# Altium footprint library LDO-DC_DC.PcbLib: 36 footprints (part 2 of 3)
Each footprint in its own frame and in the unit in brackets; x right, y up, seen from the top. Pads: shape width x height; smd on the part's side, far side on the other; paste and mask are expansions set on the pad; w line width, h text height; cw(c..) or ccw(c..) is an arc to the next point about the centre after c.
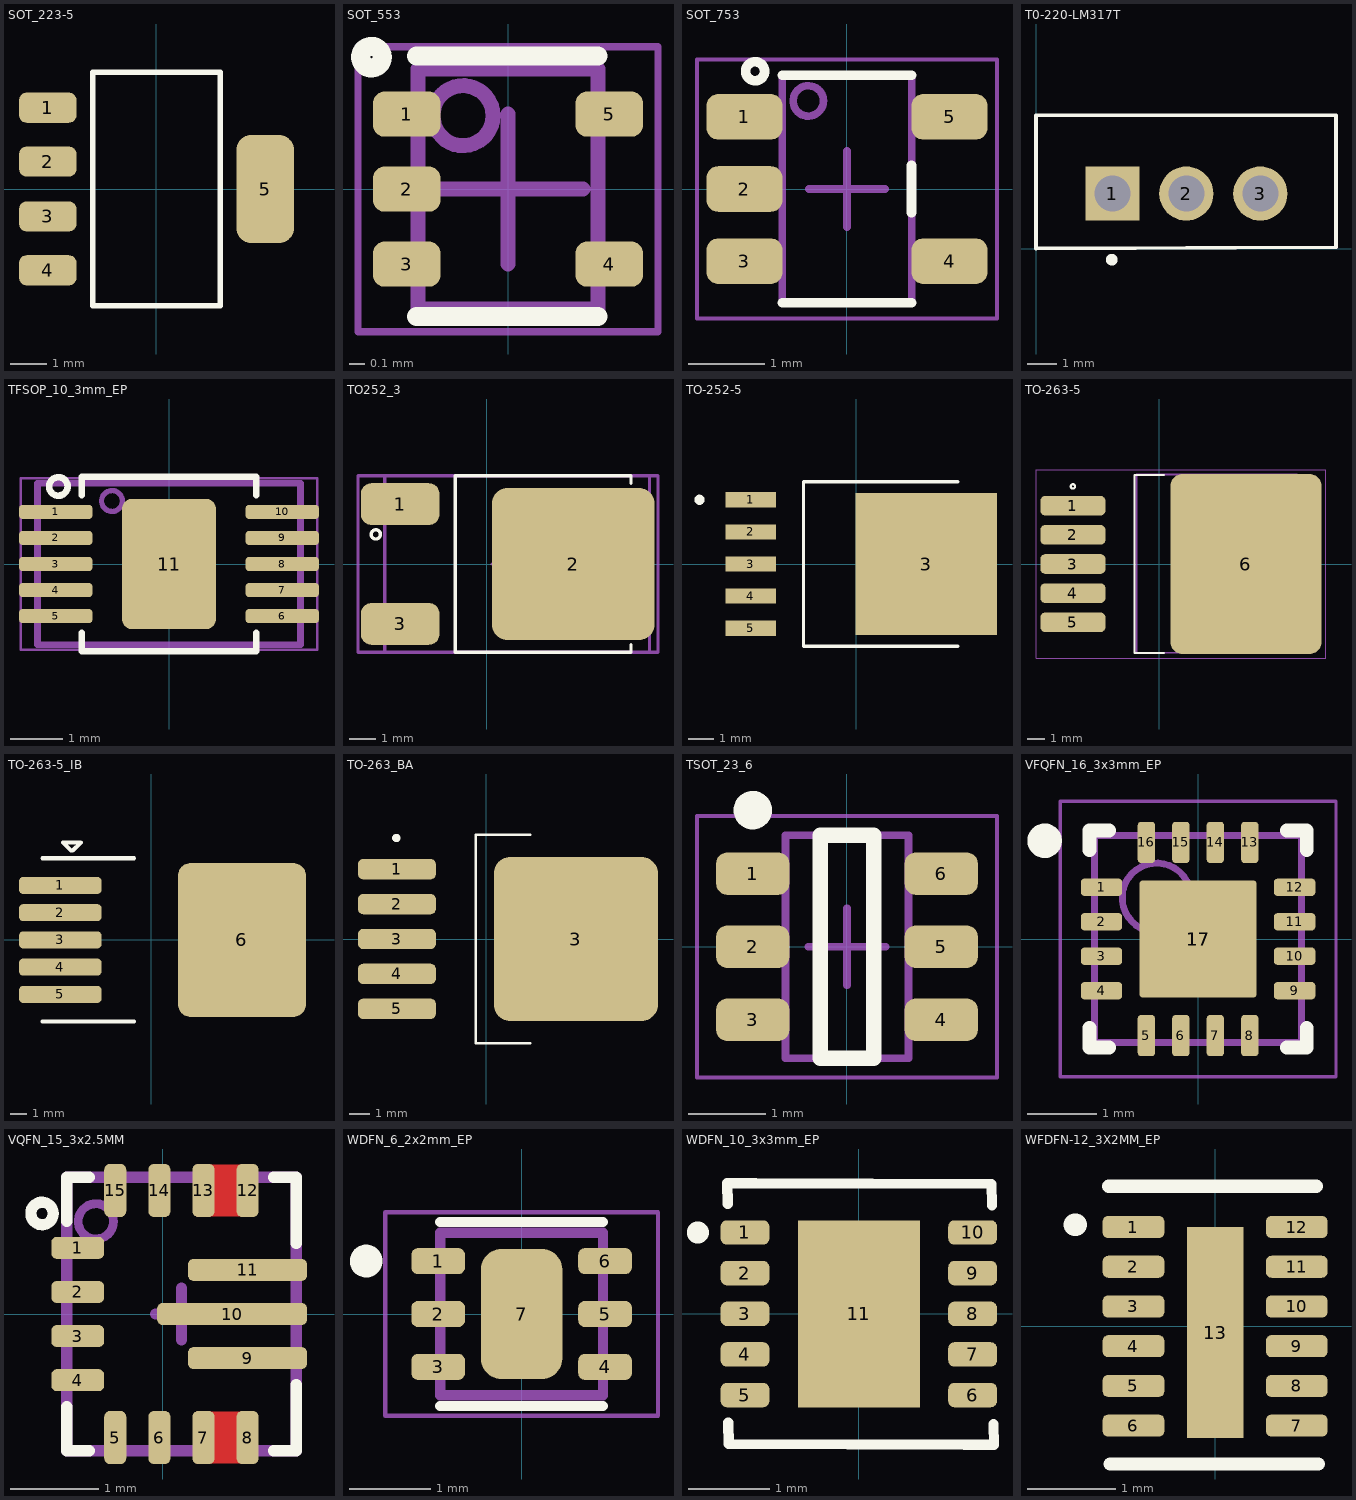
[diagram p1: the footprints below, top view; thin cyan lines are the x and y axes]

## SOT_223-5 [mil] "/20220523/F-A.Ospina"
pads (5):
  rrect50% 63x33 smd: 1(-119,89) 2(-119,30) 3(-119,-30) 4(-119,-89)
  rrect50% 63x118 smd: 5(119,0)
Top Overlay:
  lines w6: -70,-128 -70,128 70,128 70,-128 -70,-128
3D body "NOPB (1).STEP": height 69.4, standoff -1.46, extent -138.61,-127.94 138.62,127.96

## SOT_553 [mm] "ESV-5 / 20190221 / H-D.Garcia"
height 0.6
pads (5):
  rrect50% 0.45x0.3 smd: 1(-0.675,0.5) 2(-0.675,0) 3(-0.675,-0.5) 4(0.675,-0.5) 5(0.675,0.5)
Top Overlay:
  circle w0.127: c-0.91,0.88 r0.072
  lines w0.127: -0.61,-0.85 0.6,-0.85 ; -0.61,0.889 0.6,0.889
Mechanical 1:
  circle w0.1: c-0.3,0.49 r0.2
  lines w0.1: -0.6,-0.8 -0.6,0.8 0.6,0.8 0.6,-0.8 -0.6,-0.8
Mechanical 15:
  lines w0.05: -1,-0.95 -1,0.95 1,0.95 1,-0.95 -1,-0.95
  lines w0.1: -0.5,0 0.5,0 ; 0,-0.5 0,0.5
3D body "User Library-sot-553.STEP": height 0.5, standoff 0, extent -0.8,-0.8 0.8,0.8

## SOT_753 [mm] "SC-74A, SOT-25 / 20220516 / N-A.Potosi"
height 1.45
pads (5):
  rrect50% 1x0.6 smd: 1(-1.35,0.95) 2(-1.35,0) 3(-1.35,-0.95) 4(1.35,-0.95) 5(1.35,0.95)
Top Overlay:
  circle w0.127: c-1.21,1.55 r0.125
  lines w0.127: -0.85,-1.5 0.85,-1.5 ; -0.85,1.5 0.85,1.5 ; 0.85,-0.315 0.85,0.315
Mechanical 1:
  circle w0.1: c-0.51,1.16 r0.2
  lines w0.1: -0.85,-1.5 0.85,-1.5 0.85,1.5 -0.85,1.5 -0.85,-1.5
Mechanical 15:
  lines w0.05: -1.975,-1.705 1.975,-1.705 1.975,1.705 -1.975,1.705 -1.975,-1.705
  lines w0.1: -0.5,0 0.5,0 ; 0,-0.5 0,0.5
3D body "SMV.stp": height 1.15, standoff 0, extent -1.43,-1.46 1.37,1.44

## T0-220-LM317T [mm] "/ 20231112 / J.Jaramillo"
pads (3):
  rect 1.86x1.86 hole 1.24: 1(2.621,1.886)
  round 1.86 hole 1.24: 2(5.161,1.886) 3(7.701,1.886)
Top Overlay:
  circle w0.2: c2.601,-0.384 r0.1
  lines w0.127: 0,0 0,4.572 10.3,4.572 10.3,0.046 0,0
3D body "LM317T.STEP": height 22.66, standoff -7.92, extent 0,0 10.3,4.572

## TFSOP_10_3mm_EP [mm] "10-MSOP / 20210511 / C-A.Serna.A"
pads (11):
  rrect50% 1.411x0.27 smd paste+0: 1(-2.175,1) 2(-2.175,0.5) 3(-2.175,0) 4(-2.175,-0.5) 5(-2.175,-1) 6(2.175,-1) 7(2.175,-0.5) 8(2.175,0) 9(2.175,0.5) 10(2.175,1)
  rrect20% 1.8x2.5 smd paste+0: 11(0,0)
Top Overlay:
  circle w0.127: c-2.125,1.49 r0.178
  lines w0.127: -1.677,-1.32 -1.677,-1.677 1.677,-1.677 1.677,-1.32 ; -1.677,1.32 -1.677,1.677 1.677,1.677 1.677,1.32
Mechanical 1:
  circle w0.1: c-1.095,1.21 r0.2
  lines w0.127: -2.525,-1.55 -2.525,1.55 2.525,1.55 2.525,-1.55 -2.525,-1.55
Mechanical 15:
  lines w0.05: -2.85,-1.65 2.85,-1.65 2.85,1.65 -2.85,1.65 -2.85,-1.65
  lines w0.1: -0.5,0 0.5,0 ; 0,-0.5 0,0.5
3D body "DGQ10_1P88X1P57.stp": height 1.7, standoff 0, extent -2.525,-1.55 2.525,1.55

## TO252_3 [mm] "TO252-3 / 20190221 / H-D.Garcia"
pads (3):
  rrect50% 3x1.6 smd: 1(-3.302,2.285) 3(-3.302,-2.285)
  rrect20% 6.2x5.8 smd: 2(3.302,0)
Top Overlay:
  circle w0.127: c-4.232,1.13 r0.178
  lines w0.127: 5.508,-3.08 5.508,-3.367 -1.202,-3.367 -1.202,3.367 5.508,3.367 5.508,3.08
Mechanical 1:
  lines w0.127: -3.886,-3.367 -3.886,3.367 6.214,3.367 6.214,-3.367 -3.886,-3.367
Mechanical 15:
  lines w0.127: 0.213,0 1.413,0 ; 0.813,-0.6 0.813,0.6 ; -4.912,-3.367 6.538,-3.367 6.538,3.367 -4.912,3.367 -4.912,-3.367
3D body "DPAK_TO-252AA.step": height 2.42, standoff 0.02, extent -3.886,-3.367 6.214,3.367

## TO-252-5 [mm] "TO-252-5 / 200326  / J.Jaramillo"
pads (6):
  rect 2x0.6 smd: 1(-4.18,2.54) 2(-4.18,1.27) 3(-4.18,0) 4(-4.18,-1.27) 5(-4.18,-2.54)
  rect 5.6x5.6 smd paste-4: 3(2.765,0)
Top Overlay:
  circle w0.2: c-6.2,2.54 r0.1
  lines w0.127: 4.017,-3.251 -2.083,-3.251 -2.083,3.251 4.017,3.251
Top Paste:
  region: 3.505,0.42 2.025,0.42 2.025,2.28 3.505,2.28
  region: 1.714,-2.311 0.234,-2.311 0.234,-0.451 1.714,-0.451
  region: 1.714,0.389 0.234,0.389 0.234,2.249 1.714,2.249
  region: 5.374,-2.28 3.894,-2.28 3.894,-0.42 5.374,-0.42
  region: 5.374,0.42 3.894,0.42 3.894,2.28 5.374,2.28
  region: 3.505,-2.28 2.025,-2.28 2.025,-0.42 3.505,-0.42
3D body "step_temp.STEP": height 2.39, standoff 0, extent -4.595,-3.251 5.31,3.251

## TO-263-5 [mm] "P2PAK-4, D2Pak, TO-263BA / 20190617/ M-X.Arias"
pads (6):
  rrect50% 3.8x1.15 smd: 1(-5.05,3.4) 2(-5.05,1.7) 3(-5.05,0) 4(-5.05,-1.7) 5(-5.05,-3.4)
  rrect15% 8.8x10.5 smd: 6(5.05,0)
Top Overlay:
  circle w0.127: c-5.05,4.525 r0.125
  lines w0.127: 0.25,-5.2 -1.45,-5.2 -1.45,5.2 0.25,5.2
Mechanical 1:
  lines w0.1: -1.348,-5.175 8.002,-5.175 8.002,5.225 -1.348,5.225 -1.348,-5.175 ; -1.323,-5.175 8.027,-5.175 8.027,5.225 -1.323,5.225 -1.323,-5.175
Mechanical 15:
  lines w0.05: -7.2,-5.5 -7.2,5.5 9.7,5.5 9.7,-5.5 -7.2,-5.5
  lines w0.1: 0.75,0 1.75,0 ; 1.25,-0.5 1.25,0.5
3D body: height 4.8, standoff 0.03, extent -1.348,-5.175 8.002,5.225
3D body: height 4.8, standoff 0.03, extent -1.323,-5.175 8.027,5.225

## TO-263-5_IB [mil] "TO-263-6,TO-263BA,DDPAK/20200115/V-A.Patino"
pads (6):
  rrect50% 203x42 smd: 1(-223.16,133.83) 2(-223.16,66.91) 3(-223.16,0) 4(-223.16,-66.91) 5(-223.16,-133.83)
  rrect20% 314.96x378.96 smd: 6(223.16,0)
Top Overlay:
  lines w10: -267.14,-200.74 -42.14,-200.74 ; -267.14,200.74 -42.14,200.74 ; -216.16,239.83 -172.85,239.83 -192.54,220.14 -196.47,220.14 -216.16,239.83
3D body "TO-263-5-M.step": height 181.1, standoff -2.01, extent -285.72,-211.02 379.28,208.98

## TO-263_BA [mm] "/20220523/F-A.Ospina"
pads (6):
  rrect50% 3.79x0.99 smd: 1(-4.359,3.4) 2(-4.359,1.7) 3(-4.359,0) 4(-4.359,-1.7) 5(-4.359,-3.4)
  rrect20% 8x8 smd: 3(4.359,0)
Top Overlay:
  circle w0.2: c-4.389,4.92 r0.1
  lines w0.127: 2.131,-5.08 -0.512,-5.08 -0.512,5.08 2.131,5.08
3D body "KTT0005B.stp": height 4.58, standoff -0.14, extent -5.019,-5.08 9.281,5.08

## TSOT_23_6 [mm] "/ 20190712 / C-A.Serna.A"
height 1
pads (6):
  rrect50% 0.95x0.55 smd: 1(-1.225,0.95) 2(-1.225,0) 3(-1.225,-0.95) 4(1.225,-0.95) 5(1.225,0) 6(1.225,0.95)
Top Overlay:
  circle w0.25: c-1.225,1.775 r0.125
  lines w0.2: -0.35,-1.45 -0.35,1.45 0.35,1.45 0.35,-1.45 -0.35,-1.45
Mechanical 1:
  lines w0.1: -0.8,-1.45 0.8,-1.45 0.8,1.45 -0.8,1.45 -0.8,-1.45
Mechanical 15:
  lines w0.05: -1.95,-1.7 1.95,-1.7 1.95,1.7 -1.95,1.7 -1.95,-1.7
  lines w0.1: -0.5,0 0.5,0 ; 0,-0.5 0,0.5
3D body: height 1, standoff 0.01, extent -0.8,-1.45 0.8,1.45

## VFQFN_16_3x3mm_EP [mm] "16-VFQFN / 16-QFN / 20190410 / C-D Viveros"
pads (18):
  rrect40% 0.6x0.25 smd: 1(-1.4,0.75) 2(-1.4,0.25) 3(-1.4,-0.25) 4(-1.4,-0.75) 9(1.4,-0.75) 10(1.4,-0.25) 11(1.4,0.25) 12(1.4,0.75)
  rrect40% 0.25x0.6 smd: 5(-0.75,-1.4) 6(-0.25,-1.4) 7(0.25,-1.4) 8(0.75,-1.4) 13(0.75,1.4) 14(0.25,1.4) 15(-0.25,1.4) 16(-0.75,1.4)
  rrect6% 1.55x1.55 on Top Paste: 17(0,0)
  rrect6% 1.7x1.7 smd paste-0.85: 17(0,0)
Top Overlay:
  circle w0.25: c-2.225,1.425 r0.125
  lines w0.2: -1.575,-1.29 -1.575,-1.575 -1.29,-1.575 ; -1.575,1.29 -1.575,1.575 -1.29,1.575 ; 1.29,-1.575 1.575,-1.575 1.575,-1.29 ; 1.29,1.575 1.575,1.575 1.575,1.29
Mechanical 13:
  circle w0.1: c-0.6,0.6 r0.5
  lines w0.1: -1.5,-1.5 -1.5,1.5 1.5,1.5 1.5,-1.5 -1.5,-1.5
Mechanical 15:
  lines w0.05: -2,-2 -2,2 2,2 2,-2 -2,-2
  lines w0.1: -0.5,0 0.5,0 ; 0,-0.5 0,0.5
3D body: height 1, standoff 0, extent -1.5,-1.5 1.5,1.5

## VQFN_15_3x2.5MM [mm] "15-VQFN-HR / 20190221 / H-D.Garcia"
pads (15):
  rrect50% 0.6x0.25 smd: 1(-0.962,0.75) 2(-0.962,0.25) 3(-0.962,-0.25) 4(-0.962,-0.75)
  rrect50% 0.25x0.6 smd: 5(-0.537,-1.4) 6(-0.037,-1.4) 7(0.463,-1.4) 8(0.962,-1.4) 12(0.962,1.4) 13(0.463,1.4) 14(-0.037,1.4) 15(-0.537,1.4)
  rrect50% 1.35x0.25 smd: 9(0.963,-0.5) 11(0.963,0.5)
  rrect50% 1.7x0.25 smd: 10(0.788,0)
Top Layer:
  region: 0.378,1.689 1.028,1.689 1.028,1.109 0.378,1.109
  region: 0.378,-1.111 1.028,-1.111 1.028,-1.691 0.378,-1.691
Top Overlay:
  circle w0.127: c-1.367,1.139 r0.127
  lines w0.127: -1.087,-1.05 -1.087,-1.551 -0.832,-1.551 ; -1.087,1.05 -1.087,1.549 -0.832,1.549 ; 1.258,-1.551 1.513,-1.551 1.513,-0.8 ; 1.258,1.549 1.513,1.549 1.513,0.8
Mechanical 1:
  circle w0.1: c-0.757,1.049 r0.2
  lines w0.127: -1.087,-1.551 -1.087,1.549 1.513,1.549 1.513,-1.551 -1.087,-1.551
Mechanical 15:
  lines w0.127: -0.082,-0.001 0.508,-0.001 ; 0.213,-0.296 0.213,0.294 ; -1.087,-1.551 -1.087,1.549 1.513,1.549 1.513,-1.551 -1.087,-1.551
3D body "IC-TPS63070 VQFN-15.STEP": height 1.05, standoff 0, extent -1.087,-1.551 1.513,1.549

## WDFN_6_2x2mm_EP [mm] "/20210511/C-A.Serna.A"
pads (7):
  rrect50% 0.66x0.32 smd: 1(-1.025,0.65) 2(-1.025,0) 3(-1.025,-0.65) 4(1.025,-0.65) 5(1.025,0) 6(1.025,0.65)
  rrect50% 1x1.6 smd: 7(0,0)
Top Overlay:
  circle w0.203: c-1.91,0.65 r0.1
  lines w0.127: -1,-1.13 1,-1.13 ; -1,1.13 1,1.13
Mechanical 1:
  lines w0.127: -1,-1 1,-1 1,1 -1,1 -1,-1
Mechanical 15:
  lines w0.05: -1.675,-1.25 -1.675,1.25 1.675,1.25 1.675,-1.25 -1.675,-1.25
3D body "step_temp.STEP": height 0.8, standoff 0, extent -1.001,-1.003 0.999,0.997

## WDFN_10_3x3mm_EP [mm] "/ 20220809 / J-E.Pachon"
pads (11):
  rrect50% 0.6x0.3 smd: 1(-1.4,1) 2(-1.4,0.5) 3(-1.4,0) 4(-1.4,-0.5) 5(-1.4,-1) 6(1.4,-1) 7(1.4,-0.5) 8(1.4,0) 9(1.4,0.5) 10(1.4,1)
  rect 1.5x2.3 smd: 11(0,0)
Top Overlay:
  circle w0.25: c-1.98,1 r0.01
  lines w0.127: -1.611,1.35 -1.618,1.604 -1.272,1.604 1.633,1.596 1.638,1.336 ; -1.606,-1.341 -1.601,-1.601 1.304,-1.609 1.664,-1.609 1.657,-1.357
3D body "MLP10_3X3_ONS.step": height 0.81, standoff 0, extent -1.499,-1.499 1.499,1.499

## WFDFN-12_3X2MM_EP [mm] "20211216 / E.Naranjo"
pads (13):
  rrect50% 0.7x0.25 smd: 1(-0.925,1.125) 2(-0.925,0.675) 3(-0.925,0.225) 4(-0.925,-0.225) 5(-0.925,-0.675) 6(-0.925,-1.125) 7(0.925,-1.125) 8(0.925,-0.675) 9(0.925,-0.225) 10(0.925,0.225) 11(0.925,0.675) 12(0.925,1.125)
  rect 0.64x2.39 smd: 13(0,-0.07)
Top Overlay:
  lines w0.152: -1.207,1.586 1.147,1.586 ; -1.187,-1.56 1.167,-1.56
  lines w0.254: -1.59,1.15 ccw(c-1.59,1.495) -1.58,1.15
3D body "DFN-12_DDB_LIT.step": height 0.8, standoff 0, extent -1.041,-1.552 1.059,1.548